# Altium footprint library RENATA_SMTU2032-1.PcbLib: 1 footprints
Each footprint in its own frame and in the unit in brackets; x right, y up, seen from the top. Pads: shape width x height; smd on the part's side, far side on the other; paste and mask are expansions set on the pad; w line width, h text height; cw(c..) or ccw(c..) is an arc to the next point about the centre after c.
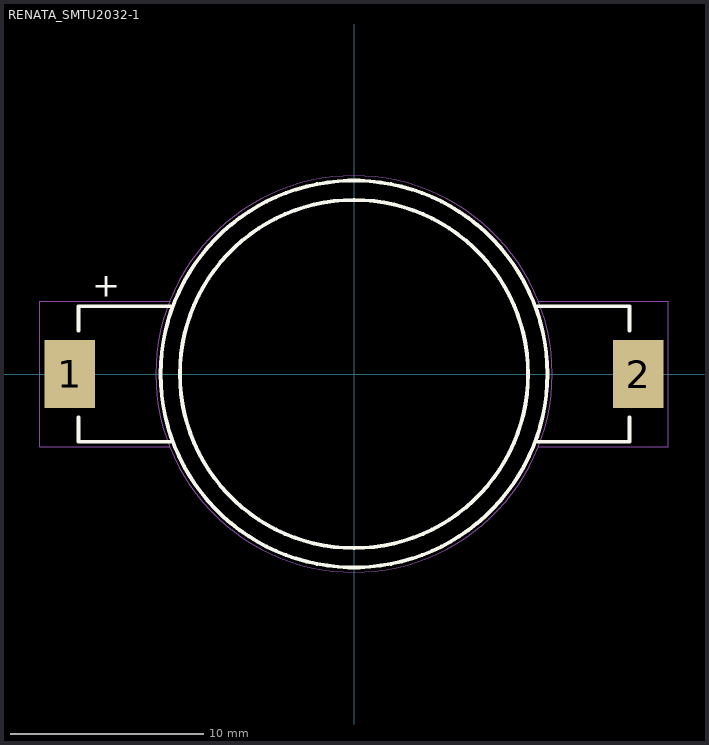
[diagram p0: the footprint, top view; thin cyan lines are the x and y axes]

## RENATA_SMTU2032-1 [mm]
pads (2):
  rect 2.6x3.5 smd paste+0 mask+0.102: 1(-14.7,0) 2(14.7,0)
Top Overlay:
  circle w0.2: c0,0 r10
  circle w0.2: c0,0 r9
  lines w0.2: -14.25,-2.25 -14.25,-3.5 -9.5,-3.5 ; -14.25,2.25 -14.25,3.5 -9.5,3.5 ; 9.5,-3.5 14.25,-3.5 14.25,-2.25 ; 9.5,3.5 14.25,3.5 14.25,2.25
  text "+" at -13.521,4.006 h1.27
Courtyard Top:
  circle w0.05: c0,0 r10.25
  lines w0.05: -9.5,-3.75 -16.25,-3.75 -16.25,3.75 -9.5,3.75 ; 9.5,-3.75 16.25,-3.75 16.25,3.75 9.5,3.75
3D body "BU2032SM-JJ-GTR--3DModel-STEP-1.STEP": height 5.3, standoff 0, extent -15.85,-10 15.85,10